# Altium footprint library LED0805.PcbLib: 1 footprints
Each footprint in its own frame and in the unit in brackets; x right, y up, seen from the top. Pads: shape width x height; smd on the part's side, far side on the other; paste and mask are expansions set on the pad; w line width, h text height; cw(c..) or ccw(c..) is an arc to the next point about the centre after c.
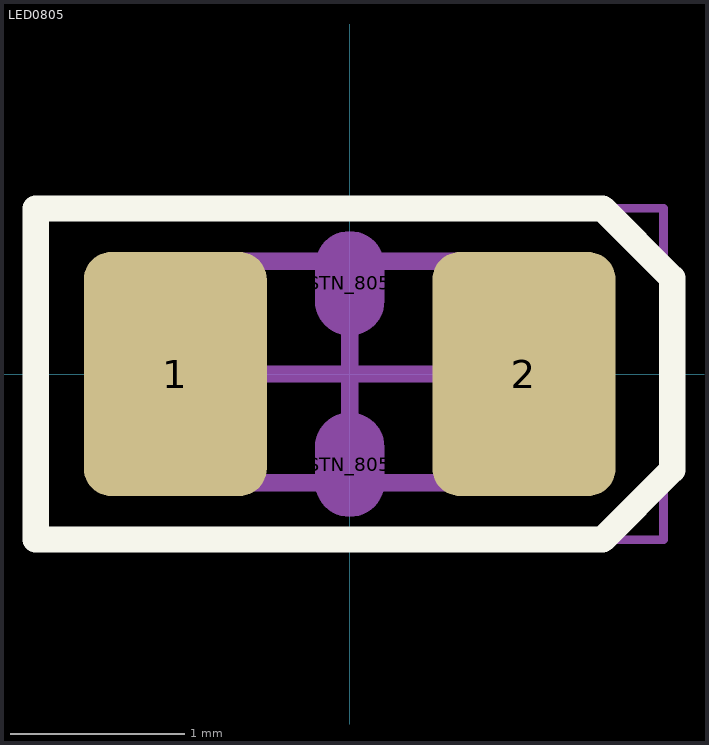
[diagram p0: the footprint, top view; thin cyan lines are the x and y axes]

## LED0805 [mm]
height 0.5
pads (4):
  rrect30% 1.05x1.4 smd: 1(-1,0) 2(1,0)
  oval 0.4x0.6 on Mech2 mask+0: STN_805(0,-0.52) STN_805(0,0.52)
Top Overlay:
  lines w0.15: -1.8,-0.95 1.45,-0.95 1.85,-0.55 1.85,0.55 1.45,0.95 -1.8,0.95 -1.8,-0.95
Mechanical 13:
  lines w0.1: -0.999,-0.624 -0.999,0.646 1.001,0.646 1.001,-0.624 -0.999,-0.624
Mechanical 15:
  lines w0.05: -1.8,-0.95 -1.8,0.95 1.8,0.95 1.8,-0.95 -1.8,-0.95
  lines w0.1: -0.5,0 0.5,0 ; 0,-0.5 0,0.5
3D body "LED-0805-glass.step": height 0.8, standoff -0.01, extent -1,-0.625 1,0.625